# EAGLE library part TLV62095 (library mcp3424)
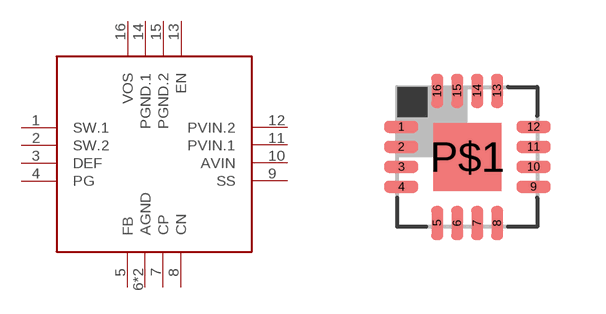
[diagram p12: symbol with the pads of QFN16; footprint QFN16]

Designator prefix -

## TLV62095  [QFN16]
1  SW.1
2  SW.2
3  DEF
4  PG
5  FB
6  AGND
7  CP
8  CN
9  SS
10  AVIN
11  PVIN.1
12  PVIN.2
13  EN
14  PGND.1
15  PGND.2
16  VOS
P$1  AGND

## Footprint QFN16 (pad centres in mm)
RTE (S-PQFP-N16) 3x3 mm Source: www.ti.com .. tpa6132a2 direct path stereo $.65.pdf
smd 0.85 x 0.3: 1 -1.655,0.75; 2 -1.655,0.25; 3 -1.655,-0.25; 4 -1.655,-0.75; 9 1.655,-0.75; 10 1.655,-0.25; 11 1.655,0.25; 12 1.655,0.75
smd 0.3 x 0.85: 5 -0.75,-1.655; 6 -0.25,-1.655; 7 0.25,-1.655; 8 0.75,-1.655; 13 0.75,1.655; 14 0.25,1.655; 15 -0.25,1.655; 16 -0.75,1.655
smd 1.7 x 1.7: P$1 0,0